# EAGLE library part ICSP_POGO_INTERFACE (library shinewave)
ICSP pads for programming over a pogo-pin interface.
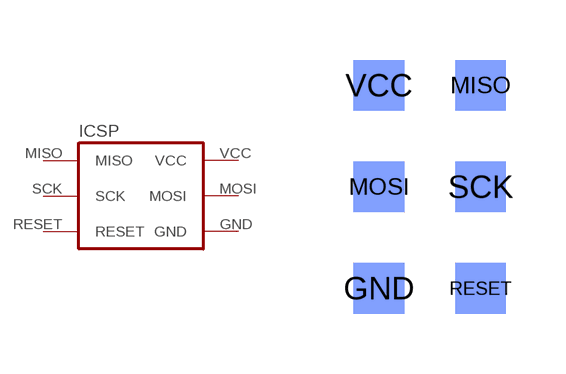
[diagram p0: symbol with the pads of ICSP_SMD; footprint ICSP_SMD]

Designator prefix -

## ICSP_POGO_INTERFACE  [ICSP_SMD]
GND  GND
MISO  MISO
MOSI  MOSI
RESET  RESET
SCK  SCK
VCC  VCC

## Footprint ICSP_SMD (pad centres in mm)
smd 1.27 x 1.27 bottom: GND 0,0; MISO 2.54,5.08; MOSI 0,2.54; RESET 2.54,0; SCK 2.54,2.54; VCC 0,5.08